# EAGLE library part TS5A3159A (library analog)
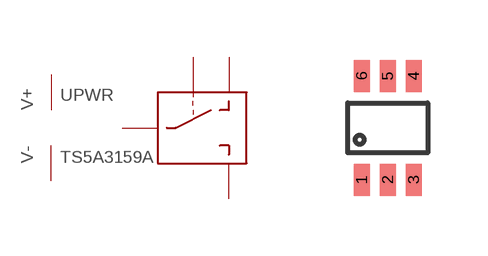
[diagram p7: symbol with the pads of R-PDSO-G6; footprint R-PDSO-G6]

Designator prefix -; gates SWITCH=SPDT_SWITCH_CTL PWR=PWR+-

## TS5A3159A  [R-PDSO-G6]
1  SWITCH:OPEN
2  PWR:GND  pwr
3  SWITCH:CLOSED
4  SWITCH:COMMON
5  PWR:V+  pwr
6  SWITCH:CTL

## Footprint R-PDSO-G6 (pad centres in mm)
smd 0.4 x 0.8: 1 -0.65,-1.3; 2 0,-1.3; 3 0.65,-1.3; 4 0.65,1.3; 5 0,1.3; 6 -0.65,1.3